# EAGLE library part SENSOR-BOARD (library Mini-Q)
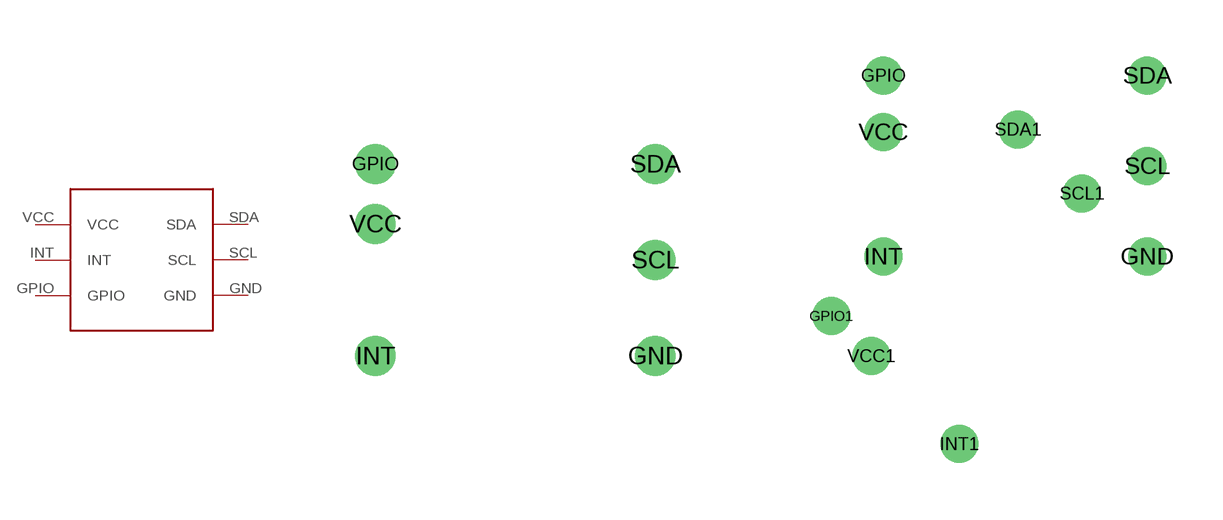
[diagram p0: symbol with the pads of SENSOR-BOARD; footprints SENSOR-BOARD, SENSOR-HOLDER]

Designator prefix -

## SENSOR-BOARD  [SENSOR-BOARD]
GND  GND
GPIO  GPIO
INT  INT
SCL  SCL
SDA  SDA
VCC  VCC

## SENSOR-BOARDHOLDER  [SENSOR-HOLDER]
GND  GND
GPIO  GPIO
GPIO1  GPIO
INT  INT
INT1  INT
SCL  SCL
SCL1  SCL
SDA  SDA
SDA1  SDA
VCC  VCC
VCC1  VCC

## Footprint SENSOR-BOARD (pad centres in mm)
drill 0.5: GND 3.5,-2.4; GPIO -3.5,2.4; INT -3.5,-2.4; SCL 3.5,0; SDA 3.5,2.4; VCC -3.5,0.9

## Footprint SENSOR-HOLDER (pad centres in mm)
drill 0.5: GND 3.5,-2.4; GPIO -3.5,2.4; GPIO1 -4.882,-3.98; INT -3.5,-2.4; INT1 -1.488,-7.374; SCL 3.5,0; SCL1 1.765,-0.727; SDA 3.5,2.4; SDA1 0.068,0.97; VCC -3.5,0.9; VCC1 -3.821,-5.04